# EAGLE library part ST7540 (library st7540)
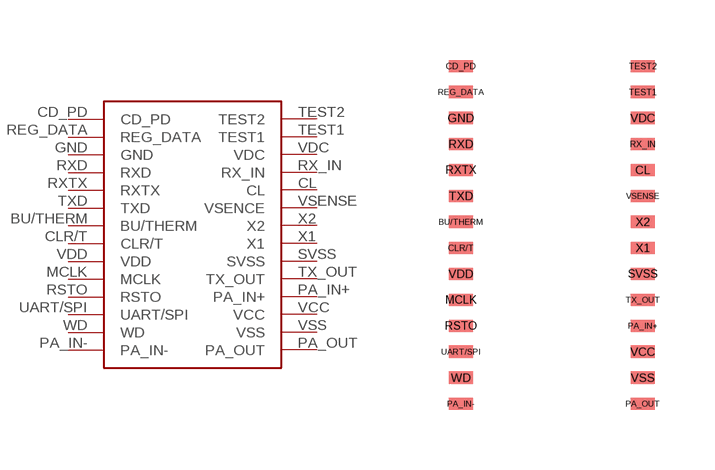
[diagram p0: symbol with the pads of ST7540; footprint ST7540]

Designator prefix -

## ST7540  [ST7540]
BU/THERM  BU/THERM
CD_PD  CD_PD
CL  CL
CLR/T  CLR/T
GND  GND
MCLK  MCLK
PA_IN+  PA_IN+
PA_IN-  PA_IN-
PA_OUT  PA_OUT
REG_DATA  REG_DATA
RSTO  RSTO
RX_IN  RX_IN
RXD  RXD
RXTX  RXTX
SVSS  SVSS
TEST1  TEST1
TEST2  TEST2
TX_OUT  TX_OUT
TXD  TXD
UART/SPI  UART/SPI
VCC  VCC
VDC  VDC
VDD  VDD
VSENSE  VSENCE
VSS  VSS
WD  WD
X1  X1
X2  X2

## Footprint ST7540 (pad centres in mm)
smd 0.61 x 0.305: BU/THERM -2.275,0; CD_PD -2.275,3.9; CL 2.275,1.3; CLR/T -2.275,-0.65; GND -2.275,2.6; MCLK -2.275,-1.95; PA_IN+ 2.275,-2.6; PA_IN- -2.275,-4.55; PA_OUT 2.275,-4.55; REG_DATA -2.275,3.25; RSTO -2.275,-2.6; RX_IN 2.275,1.95; RXD -2.275,1.95; RXTX -2.275,1.3; SVSS 2.275,-1.3; TEST1 2.275,3.25; TEST2 2.275,3.9; TX_OUT 2.275,-1.95; TXD -2.275,0.65; UART/SPI -2.275,-3.25; VCC 2.275,-3.25; VDC 2.275,2.6; VDD -2.275,-1.3; VSENSE 2.275,0.65; VSS 2.275,-3.9; WD -2.275,-3.9; X1 2.275,-0.65; X2 2.275,0